# EAGLE library part 220AMA16R (library 220AMA16R)
16-pos,flush act,SMD,rotary coded 16 Way Surface Mount Rotary Switch SPST <https://componentsearchengine.com/Images/1/220AMA16R.jpg> Source: Datasheet <https://www.ctscorp.com/wp-content/uploads/220.pdf>
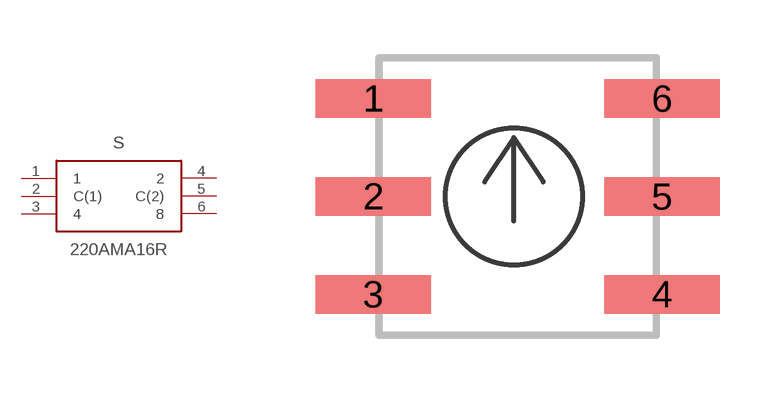
[diagram p0: symbol with the pads of 220AMA16R; footprint 220AMA16R]

Designator prefix S

## 220AMA16R (DESCRIPTION: 16-pos,flush act,SMD,rotary coded 16 Way Surface Mount Rotary Switch SPST; HEIGHT: 3mm; MANUFACTURER_NAME: CTS; MANUFACTURER_PART_NUMBER: 220AMA16R; RS_PART_NUMBER: 1234577; SUPPLIER_NAME: RS)  [220AMA16R]
1  1  pas
2  C(1)  pas
3  4  pas
4  2  pas
5  C(2)  pas
6  8  pas

## Footprint 220AMA16R (pad centres in mm)
220AMA16R
smd 3 x 1: 1 -3.525,2.54; 2 -3.525,0; 3 -3.525,-2.54; 4 3.975,-2.54; 5 3.975,0; 6 3.975,2.54